# EAGLE library part ERM8-030-01-D-EMX (library con-samtec-er8)
ERM8 Series - Male Right Angle Edge Mount
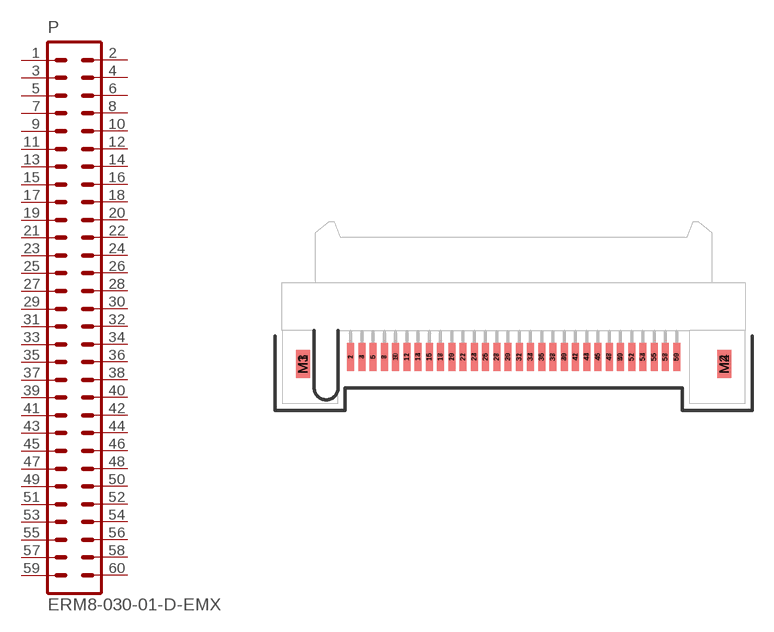
[diagram p44: symbol with the pads of ERM8-030-01-D-EMX; footprint ERM8-030-01-D-EMX]

Designator prefix P

## ERM8-030-01-D-EMX  [ERM8-030-01-D-EMX]
1  1  pas
2  2  pas
3  3  pas
4  4  pas
5  5  pas
6  6  pas
7  7  pas
8  8  pas
9  9  pas
10  10  pas
11  11  pas
12  12  pas
13  13  pas
14  14  pas
15  15  pas
16  16  pas
17  17  pas
18  18  pas
19  19  pas
20  20  pas
21  21  pas
22  22  pas
23  23  pas
24  24  pas
25  25  pas
26  26  pas
27  27  pas
28  28  pas
29  29  pas
30  30  pas
31  31  pas
32  32  pas
33  33  pas
34  34  pas
35  35  pas
36  36  pas
37  37  pas
38  38  pas
39  39  pas
40  40  pas
41  41  pas
42  42  pas
43  43  pas
44  44  pas
45  45  pas
46  46  pas
47  47  pas
48  48  pas
49  49  pas
50  50  pas
51  51  pas
52  52  pas
53  53  pas
54  54  pas
55  55  pas
56  56  pas
57  57  pas
58  58  pas
59  59  pas
60  60  pas

## Footprint ERM8-030-01-D-EMX (pad centres in mm)
0.8mm Edge Rate Terminal Assembly MALE, Double Row, 30 Position
smd 0.5 x 2 bottom: 1 -11.6,-1.9; 3 -10.8,-1.9; 5 -10,-1.9; 7 -9.2,-1.9; 9 -8.4,-1.9; 11 -7.6,-1.9; 13 -6.8,-1.9; 15 -6,-1.9; 17 -5.2,-1.9; 19 -4.4,-1.9; 21 -3.6,-1.9; 23 -2.8,-1.9; 25 -2,-1.9; 27 -1.2,-1.9; 29 -0.4,-1.9; 31 0.4,-1.9; 33 1.2,-1.9; 35 2,-1.9; 37 2.8,-1.9; 39 3.6,-1.9; 41 4.4,-1.9; 43 5.2,-1.9; 45 6,-1.9; 47 6.8,-1.9; 49 7.6,-1.9; 51 8.4,-1.899; 53 9.2,-1.899; 55 10,-1.899; 57 10.8,-1.899; 59 11.6,-1.899
smd 0.5 x 2: 2 -11.6,-1.899; 4 -10.8,-1.899; 6 -10,-1.899; 8 -9.2,-1.899; 10 -8.4,-1.899; 12 -7.6,-1.899; 14 -6.8,-1.899; 16 -6,-1.899; 18 -5.2,-1.899; 20 -4.4,-1.899; 22 -3.6,-1.899; 24 -2.8,-1.899; 26 -2,-1.899; 28 -1.2,-1.899; 30 -0.4,-1.899; 32 0.4,-1.899; 34 1.2,-1.899; 36 2,-1.899; 38 2.8,-1.899; 40 3.6,-1.899; 42 4.4,-1.899; 44 5.2,-1.899; 46 6,-1.899; 48 6.8,-1.899; 50 7.6,-1.899; 52 8.4,-1.899; 54 9.2,-1.899; 56 10,-1.899; 58 10.8,-1.899; 60 11.6,-1.899
smd 1 x 2: M1 -15,-2.399; M2 15,-2.399
smd 1 x 2 bottom: M3 -15,-2.4; M4 15,-2.4